# Altium footprint library PcbLib1.PcbLib: 8 footprints
Each footprint in its own frame and in the unit in brackets; x right, y up, seen from the top. Pads: shape width x height; smd on the part's side, far side on the other; paste and mask are expansions set on the pad; w line width, h text height; cw(c..) or ccw(c..) is an arc to the next point about the centre after c.
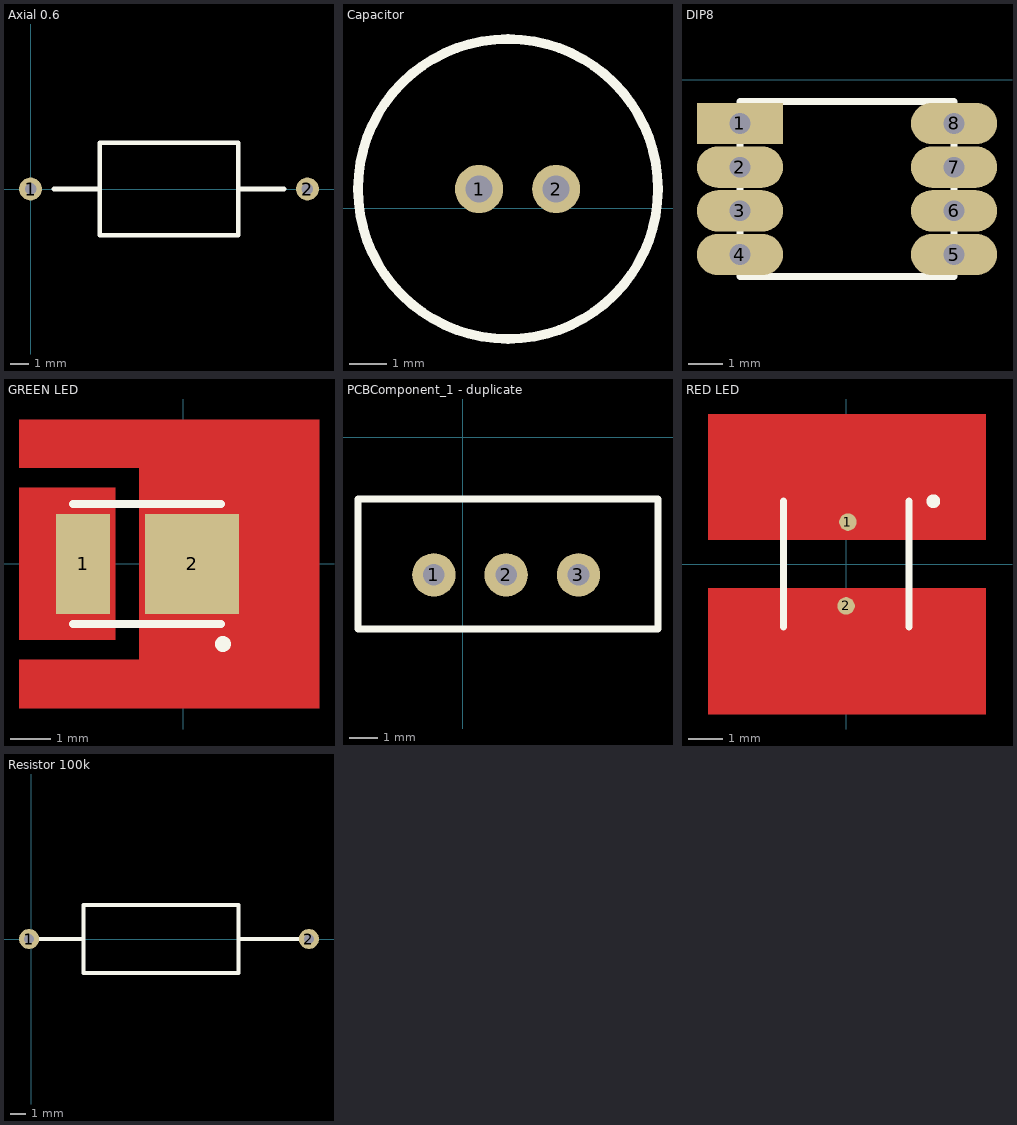
[diagram p0: the footprints below, top view; thin cyan lines are the x and y axes]

## Axial 0.6 [mil]
pads (2):
  round 50 hole 25: 1(0,0) 2(600,0)
Top Overlay:
  lines w10: 50,0 150,0 ; 450,0 550,0 ; 150,0 150,-100 450,-100 450,100 150,100 150,0

## Capacitor [mil]
pads (2):
  round 50 hole 28: 1(205,20) 2(285,20)
Top Overlay:
  circle w10: c235,20 r155.72
3D body "CAP_EEU-EB1H220S_PAN.step": height 472.6, standoff -165.98, extent 130.5,-88.49 347.88,128.51

## DIP8 [mm]
pads (8):
  rect 2.5x1.2 hole 0.6: 1(4.445,-1.27)
  oval 2.5x1.2 hole 0.6: 2(4.445,-2.54) 3(4.445,-3.81) 4(4.445,-5.08) 5(10.668,-5.08) 6(10.668,-3.81) 7(10.668,-2.54) 8(10.668,-1.27)
Top Overlay:
  lines w0.2: 5.08,-0.635 10.11,-0.635 10.668,-0.635 10.668,-3.302 10.702,-3.302 10.668,-3.336 10.668,-5.715 4.445,-5.715 4.445,-0.635 5.09,-0.635
3D body "D8.step": height 1.76, standoff 0, extent 4.521,-5.677 10.719,-0.673

## GREEN LED [mm]
pads (2):
  rect 1.35x2.5 smd: 1(-2.5,0)
  rect 2.35x2.5 smd: 2(0.225,0)
Top Layer:
  region: -4.1,-1.9 -1.7,-1.9 -1.7,-1.25 -1.7,1.25 -1.7,1.9 -4.1,1.9
  region: -4.1,-3.6 -4.1,-2.4 -1.1,-2.4 -1.1,-1.25 -1.1,1.25 -1.1,2.4 -4.1,2.4 -4.1,3.6 3.4,3.6 3.4,-3.6
Top Overlay:
  circle w0.254: c1,-2 r0.071
  lines w0.2: -2.75,-1.5 0.95,-1.5 ; -2.75,1.5 0.95,1.5
3D body "Green LED.STEP": height 0.81, standoff 0.01, extent -2.65,-1.35 0.85,1.45

## PCBComponent_1 [mil]

## PCBComponent_1 - duplicate [mil]
pads (3):
  round 60 hole 30: 1(-40,-190) 2(60,-190) 3(160,-190)
Top Overlay:
  lines w10: -145,-265 -145,-85 270,-85 270,-265 -145,-265
3D body "TO-220_STM.step": height 775.98, standoff -255, extent -145,-266.02 265,-85

## RED LED [mm]
pads (2):
  round 0.5 smd: 1(0.05,1.2) 2(0,-1.2)
Top Layer:
  region: -1.4,0.7 -1.4,1.7 -0.5,1.7 -0.5,2.5 0.5,2.5 0.5,1.7 1.4,1.7 1.4,0.7
  region: -1.4,-0.7 -1.4,-1.7 -0.5,-1.7 -0.5,-2.5 0.5,-2.5 0.5,-1.7 1.4,-1.7 1.4,-0.7
  region: 4,-0.7 4,-4.3 -3.95,-4.3 -3.95,-0.7
  region: 4,0.7 4,4.3 -3.95,4.3 -3.95,0.7
Top Overlay:
  circle w0.254: c2.5,1.8 r0.071
  lines w0.2: -1.8,-1.8 -1.8,1.8 ; 1.8,-1.8 1.8,1.8
3D body "OVS5MxBCR4.STEP": height 1.26, standoff 0.01, extent -1.8,-1.863 1.7,1.764

## Resistor 100k [mil]
pads (2):
  round 50 hole 25: 1(-5,0) 2(690,0)
Top Overlay:
  lines w10: 10,0 130,0 ; 520,0 675,0 ; 130,0 130,85 241.25,85 403.75,85 515,85 515,-85 403.75,-85 241.25,-85 130,-85 130,0
3D body "RES_HHV1WS_11P5X4P5_YAG.step": height 177, standoff -100, extent -21.69,-88.37 705,88.37